# EAGLE library part 53916-0208 (library wheat)
Conn, molex 53916-0208 2x10 smt 0.5mm 4mm spacinh
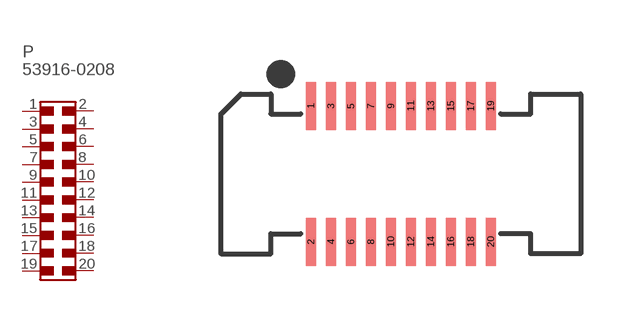
[diagram p107: symbol with the pads of 53748*0208; footprint 53748*0208]

Designator prefix P

## 53916-0208  [53748*0208]
1  1  pas
2  2  pas
3  3  pas
4  4  pas
5  5  pas
6  6  pas
7  7  pas
8  8  pas
9  9  pas
10  10  pas
11  11  pas
12  12  pas
13  13  pas
14  14  pas
15  15  pas
16  16  pas
17  17  pas
18  18  pas
19  19  pas
20  20  pas

## Footprint 53748*0208 (pad centres in mm)
Conn, Molex 53748-0208 2x10 0.5mm header
smd 0.25 x 1.2: 1 -2.25,1.7; 2 -2.25,-1.7; 3 -1.75,1.7; 4 -1.75,-1.7; 5 -1.25,1.7; 6 -1.25,-1.7; 7 -0.75,1.7; 8 -0.75,-1.7; 9 -0.25,1.7; 10 -0.25,-1.7; 11 0.25,1.7; 12 0.25,-1.7; 13 0.75,1.7; 14 0.75,-1.7; 15 1.25,1.7; 16 1.25,-1.7; 17 1.75,1.7; 18 1.75,-1.7; 19 2.25,1.7; 20 2.25,-1.7